# EAGLE library part LORA-E22-900M (library angrypig7-Boards)
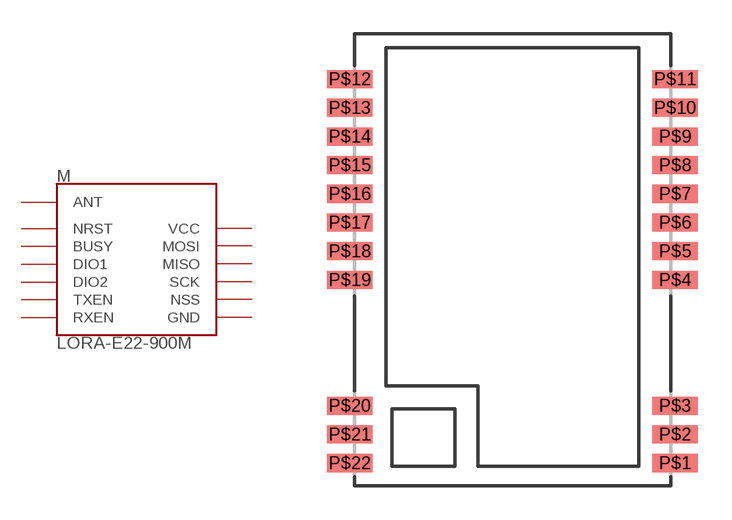
[diagram p6: symbol with the pads of LORA-E22-900M22S; footprint LORA-E22-900M22S]

Designator prefix M

## LORA-E22-900M  [LORA-E22-900M22S]
P$1  GND
P$2  GND
P$3  GND
P$4  GND
P$5  GND
P$6  RXEN
P$7  TXEN
P$8  DIO2
P$9  VCC
P$10  GND
P$11  GND
P$12  GND
P$13  DIO1
P$14  BUSY
P$15  NRST
P$16  MISO
P$17  MOSI
P$18  SCK
P$19  NSS
P$20  GND
P$21  ANT
P$22  GND

## Footprint LORA-E22-900M22S (pad centres in mm)
smd 2 x 0.8: P$1 7.2,-9; P$2 7.2,-7.73; P$3 7.2,-6.46; P$4 7.2,-0.89; P$5 7.2,0.38; P$6 7.2,1.65; P$7 7.2,2.92; P$8 7.2,4.19; P$9 7.2,5.46; P$10 7.2,6.73; P$11 7.2,8; P$12 -7.2,8; P$13 -7.2,6.73; P$14 -7.2,5.46; P$15 -7.2,4.19; P$16 -7.2,2.92; P$17 -7.2,1.65; P$18 -7.2,0.38; P$19 -7.2,-0.89; P$20 -7.2,-6.46; P$21 -7.2,-7.73; P$22 -7.2,-9